# Altium footprint library SM03BSRSSTBLFSN.PcbLib: 1 footprints
Each footprint in its own frame and in the unit in brackets; x right, y up, seen from the top. Pads: shape width x height; smd on the part's side, far side on the other; paste and mask are expansions set on the pad; w line width, h text height; cw(c..) or ccw(c..) is an arc to the next point about the centre after c.
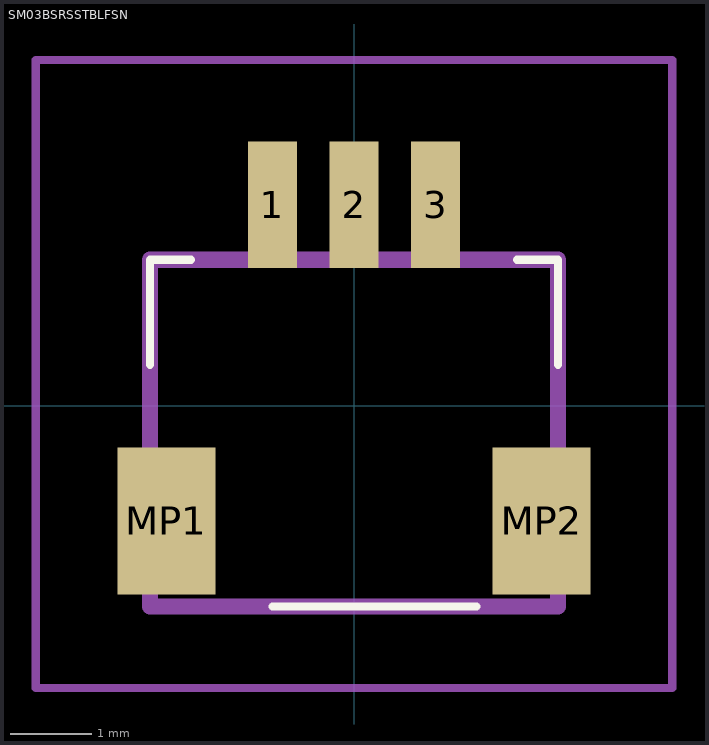
[diagram p0: the footprint, top view; thin cyan lines are the x and y axes]

## SM03BSRSSTBLFSN [mm]
pads (5):
  rect 0.6x1.55 smd: 1(-1,2.463) 2(0,2.463) 3(1,2.463)
  rect 1.2x1.8 smd: MP1(-2.3,-1.413) MP2(2.3,-1.413)
Top Overlay:
  lines w0.1: -2.5,0.5 -2.5,1.787 -2,1.787 ; -1,-2.463 1.5,-2.463 ; 2,1.787 2.5,1.787 2.5,0.5
Mechanical 15:
  lines w0.2: -2.5,-2.463 2.5,-2.463 2.5,1.787 -2.5,1.787 -2.5,-2.463
Mechanical 20:
  lines w0.1: -3.9,-3.463 3.9,-3.463 3.9,4.237 -3.9,4.237 -3.9,-3.463